# EAGLE library part ADP2300 (library analog-devices)
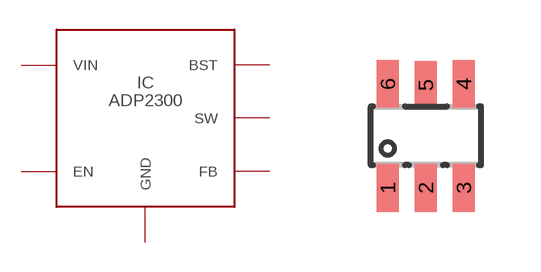
[diagram p152: symbol with the pads of SOT23-6; footprint SOT23-6]

Designator prefix IC

## ADP2300  [SOT23-6]
1  BST
2  GND
3  FB
4  EN
5  VIN
6  SW

## Footprint SOT23-6 (pad centres in mm)
smd 0.55 x 1.2: 1 -0.95,-1.3; 2 0,-1.3; 3 0.95,-1.3; 4 0.95,1.3; 5 0,1.27; 6 -0.95,1.3